# EAGLE library part ADS7056IRUGR (library ICs)
ADS7056 Ultra-Low Power, Ultra-Small Size, 14-Bit, High-Speed SAR ADC
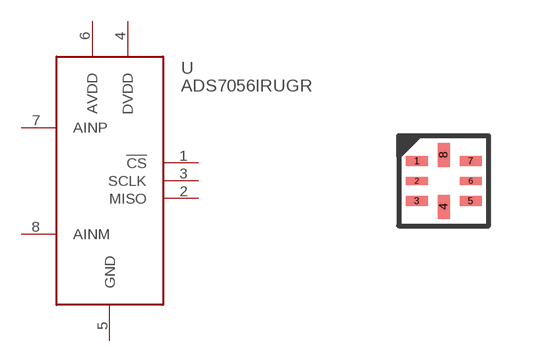
[diagram p329: symbol with the pads of X2QFN8; footprint X2QFN8]

Designator prefix U

## ADS7056IRUGR (DIGIKEY: 296-47123-1-ND; HEIGHT: 0.5; PRICE_PER: 5.22; VALUE: ADS7056)  [X2QFN8]
1  !CS
2  MISO
3  SCLK
4  DVDD
5  GND
6  AVDD
7  AINP
8  AINM

## Footprint X2QFN8 (pad centres in mm)
smd 0.55 x 0.25: 1 -0.675,0.5; 3 -0.675,-0.5; 5 0.675,-0.5; 7 0.675,0.5
smd 0.55 x 0.2: 2 -0.675,0; 6 0.675,0
smd 0.3 x 0.6: 4 0,-0.65; 8 0,0.65